# EAGLE library part LTC2173/74/75 (library linear-technology)
QUAD ADC 14-Bit, 125Msps/105Msps/80Msps Low Power
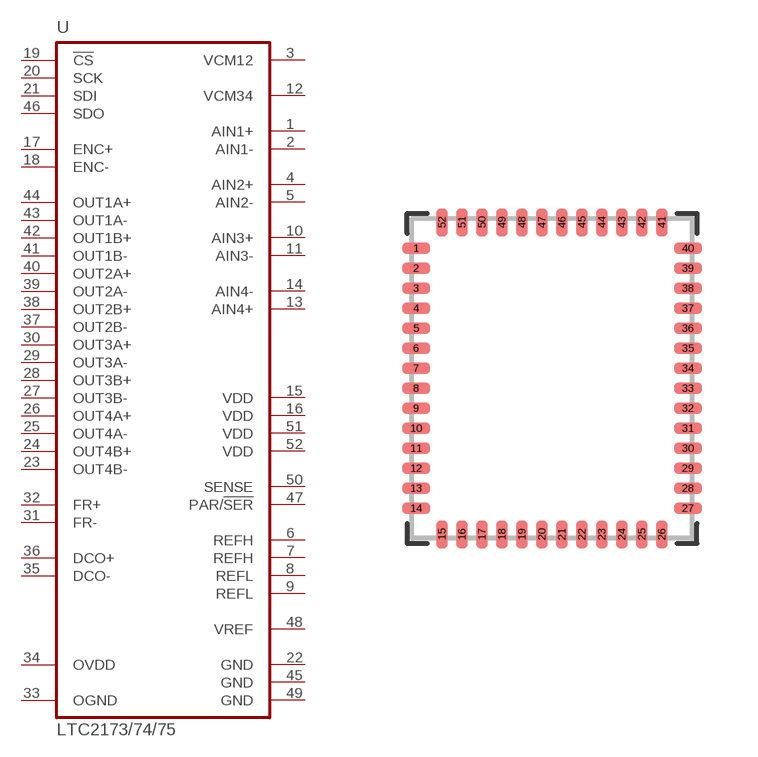
[diagram p36: symbol with the pads of QFN52-UKG; footprint QFN52-UKG]

Designator prefix U

## LTC2173/74/75 (P1I: o)  [QFN52-UKG]
1  AIN1+  in
2  AIN1-  in
3  VCM12  out
4  AIN2+  in
5  AIN2-  in
6  REFH  pas
7  REFH  pas
8  REFL  pas
9  REFL  pas
10  AIN3+  in
11  AIN3-  in
12  VCM34  pas
13  AIN4+  in
14  AIN4-  in
15  VDD  pwr
16  VDD  pwr
17  ENC+  in
18  ENC-  in
19  !CS!  in
20  SCK  in
21  SDI  in
22  GND  pwr
23  OUT4B-  out
24  OUT4B+  out
25  OUT4A-  out
26  OUT4A+  out
27  OUT3B-  out
28  OUT3B+  out
29  OUT3A-  out
30  OUT3A+  out
31  FR-  out
32  FR+  out
33  OGND  pwr
34  OVDD  pwr
35  DCO-  out
36  DCO+  out
37  OUT2B-  out
38  OUT2B+  out
39  OUT2A-  out
40  OUT2A+  out
41  OUT1B-  out
42  OUT1B+  out
43  OUT1A-  out
44  OUT1A+  out
45  GND  pwr
46  SDO  out
47  PAR/!SER!  in
48  VREF  pas
49  GND  pwr
50  SENSE  in
51  VDD  pwr
52  VDD  pwr

## Footprint QFN52-UKG (pad centres in mm)
52-Lead Plastic QFN body 7mm × 8mm, UKG Package
smd 0.7 x 0.28: 1 -3.4,3.25; 2 -3.4,2.75; 3 -3.4,2.25; 4 -3.4,1.75; 5 -3.4,1.25; 6 -3.4,0.75; 7 -3.4,0.25; 8 -3.4,-0.25; 9 -3.4,-0.75; 10 -3.4,-1.25; 11 -3.4,-1.75; 12 -3.4,-2.25; 13 -3.4,-2.75; 14 -3.4,-3.25; 27 3.4,-3.25; 28 3.4,-2.75; 29 3.4,-2.25; 30 3.4,-1.75; 31 3.4,-1.25; 32 3.4,-0.75; 33 3.4,-0.25; 34 3.4,0.25; 35 3.4,0.75; 36 3.4,1.25; 37 3.4,1.75; 38 3.4,2.25; 39 3.4,2.75; 40 3.4,3.25
smd 0.28 x 0.7: 15 -2.75,-3.9; 16 -2.25,-3.9; 17 -1.75,-3.9; 18 -1.25,-3.9; 19 -0.75,-3.9; 20 -0.25,-3.9; 21 0.25,-3.9; 22 0.75,-3.9; 23 1.25,-3.9; 24 1.75,-3.9; 25 2.25,-3.9; 26 2.75,-3.9; 41 2.75,3.9; 42 2.25,3.9; 43 1.75,3.9; 44 1.25,3.9; 45 0.75,3.9; 46 0.25,3.9; 47 -0.25,3.9; 48 -0.75,3.9; 49 -1.25,3.9; 50 -1.75,3.9; 51 -2.25,3.9; 52 -2.75,3.9